# Altium schematic symbol library SCH - MCU - STM32 - ST MICROELECTRONICS STM32G441CBYX WLCSP49.SchLib: 1 symbol
Pins are listed as number, name and electrical type; pins without a type are passive.

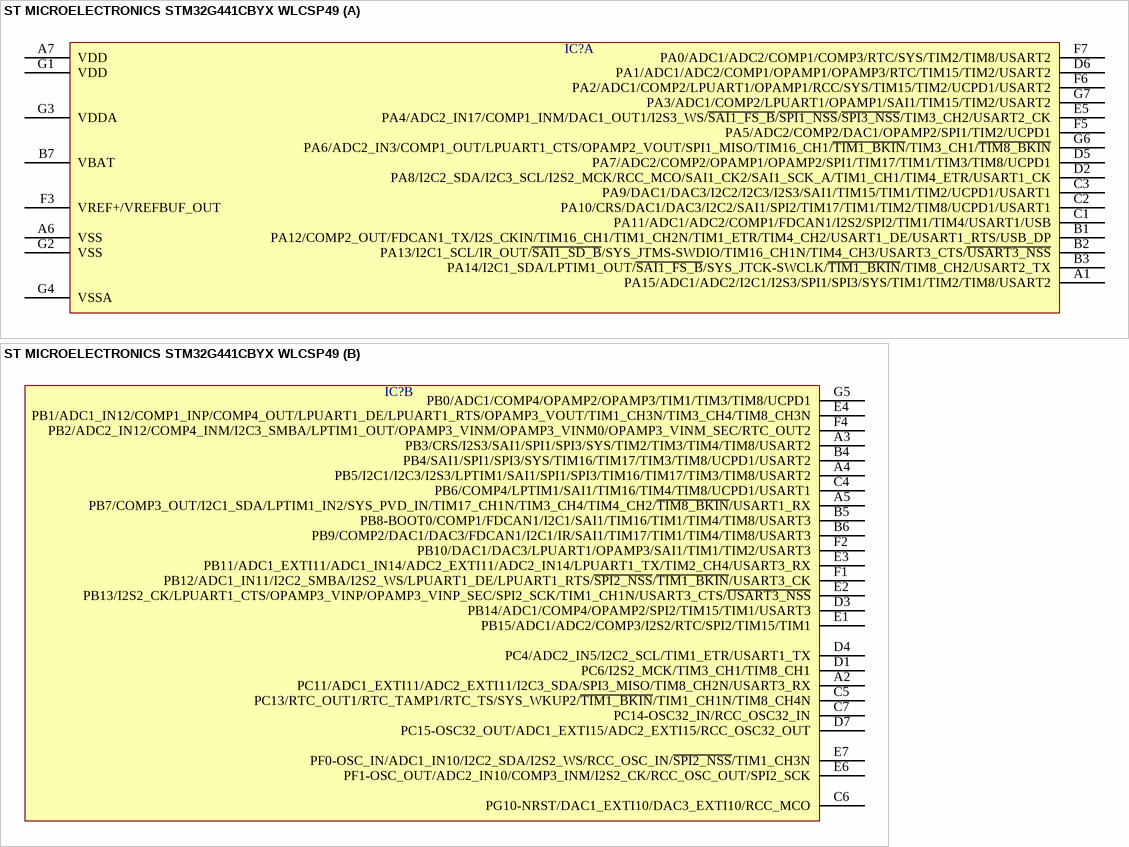
[diagram p0: symbol ST MICROELECTRONICS STM32G441CBYX WLCSP49]

## ST MICROELECTRONICS STM32G441CBYX WLCSP49
designator IC?  (value not drawn)
part A pins: A1 PA15/ADC1/ADC2/I2C1/I2S3/SPI1/SPI3/SYS/TIM1/TIM2/TIM8/USART2, A6 VSS, A7 VDD, B1 PA12/COMP2_OUT/FDCAN1_TX/I2S_CKIN/TIM16_CH1/TIM1_CH2N/TIM1_ETR/TIM4_CH2/USART1_DE/USART1_RTS/USB_DP, B2 PA13/I2C1_SCL/IR_OUT/~{SAI1_SD_B}/SYS_JTMS-SWDIO/TIM16_CH1N/TIM4_CH3/USART3_CTS/~{USART3_NSS}, B3 PA14/I2C1_SDA/LPTIM1_OUT/~{SAI1_FS_B}/SYS_JTCK-SWCLK/~{TIM1_BKIN}/TIM8_CH2/USART2_TX, B7 VBAT, C1 PA11/ADC1/ADC2/COMP1/FDCAN1/I2S2/SPI2/TIM1/TIM4/USART1/USB, C2 PA10/CRS/DAC1/DAC3/I2C2/SAI1/SPI2/TIM17/TIM1/TIM2/TIM8/UCPD1/USART1, C3 PA9/DAC1/DAC3/I2C2/I2C3/I2S3/SAI1/TIM15/TIM1/TIM2/UCPD1/USART1, D2 PA8/I2C2_SDA/I2C3_SCL/I2S2_MCK/RCC_MCO/SAI1_CK2/SAI1_SCK_A/TIM1_CH1/TIM4_ETR/USART1_CK, D5 PA7/ADC2/COMP2/OPAMP1/OPAMP2/SPI1/TIM17/TIM1/TIM3/TIM8/UCPD1, D6 PA1/ADC1/ADC2/COMP1/OPAMP1/OPAMP3/RTC/TIM15/TIM2/USART2, E5 PA4/ADC2_IN17/COMP1_INM/DAC1_OUT1/I2S3_WS/~{SAI1_FS_B}/~{SPI1_NSS}/~{SPI3_NSS}/TIM3_CH2/USART2_CK, F3 VREF+/VREFBUF_OUT, F5 PA5/ADC2/COMP2/DAC1/OPAMP2/SPI1/TIM2/UCPD1, F6 PA2/ADC1/COMP2/LPUART1/OPAMP1/RCC/SYS/TIM15/TIM2/UCPD1/USART2, F7 PA0/ADC1/ADC2/COMP1/COMP3/RTC/SYS/TIM2/TIM8/USART2, G1 VDD, G2 VSS, G3 VDDA, G4 VSSA, G6 PA6/ADC2_IN3/COMP1_OUT/LPUART1_CTS/OPAMP2_VOUT/SPI1_MISO/TIM16_CH1/~{TIM1_BKIN}/TIM3_CH1/~{TIM8_BKIN}, G7 PA3/ADC1/COMP2/LPUART1/OPAMP1/SAI1/TIM15/TIM2/USART2
part B pins: A2 PC11/ADC1_EXTI11/ADC2_EXTI11/I2C3_SDA/SPI3_MISO/TIM8_CH2N/USART3_RX, A3 PB3/CRS/I2S3/SAI1/SPI1/SPI3/SYS/TIM2/TIM3/TIM4/TIM8/USART2, A4 PB5/I2C1/I2C3/I2S3/LPTIM1/SAI1/SPI1/SPI3/TIM16/TIM17/TIM3/TIM8/USART2, A5 PB7/COMP3_OUT/I2C1_SDA/LPTIM1_IN2/SYS_PVD_IN/TIM17_CH1N/TIM3_CH4/TIM4_CH2/~{TIM8_BKIN}/USART1_RX, B4 PB4/SAI1/SPI1/SPI3/SYS/TIM16/TIM17/TIM3/TIM8/UCPD1/USART2, B5 PB8-BOOT0/COMP1/FDCAN1/I2C1/SAI1/TIM16/TIM1/TIM4/TIM8/USART3, B6 PB9/COMP2/DAC1/DAC3/FDCAN1/I2C1/IR/SAI1/TIM17/TIM1/TIM4/TIM8/USART3, C4 PB6/COMP4/LPTIM1/SAI1/TIM16/TIM4/TIM8/UCPD1/USART1, C5 PC13/RTC_OUT1/RTC_TAMP1/RTC_TS/SYS_WKUP2/~{TIM1_BKIN}/TIM1_CH1N/TIM8_CH4N, C6 PG10-NRST/DAC1_EXTI10/DAC3_EXTI10/RCC_MCO, C7 PC14-OSC32_IN/RCC_OSC32_IN, D1 PC6/I2S2_MCK/TIM3_CH1/TIM8_CH1, D3 PB14/ADC1/COMP4/OPAMP2/SPI2/TIM15/TIM1/USART3, D4 PC4/ADC2_IN5/I2C2_SCL/TIM1_ETR/USART1_TX, D7 PC15-OSC32_OUT/ADC1_EXTI15/ADC2_EXTI15/RCC_OSC32_OUT, E1 PB15/ADC1/ADC2/COMP3/I2S2/RTC/SPI2/TIM15/TIM1, E2 PB13/I2S2_CK/LPUART1_CTS/OPAMP3_VINP/OPAMP3_VINP_SEC/SPI2_SCK/TIM1_CH1N/USART3_CTS/~{USART3_NSS}, E3 PB11/ADC1_EXTI11/ADC1_IN14/ADC2_EXTI11/ADC2_IN14/LPUART1_TX/TIM2_CH4/USART3_RX, E4 PB1/ADC1_IN12/COMP1_INP/COMP4_OUT/LPUART1_DE/LPUART1_RTS/OPAMP3_VOUT/TIM1_CH3N/TIM3_CH4/TIM8_CH3N, E6 PF1-OSC_OUT/ADC2_IN10/COMP3_INM/I2S2_CK/RCC_OSC_OUT/SPI2_SCK, E7 PF0-OSC_IN/ADC1_IN10/I2C2_SDA/I2S2_WS/RCC_OSC_IN/~{SPI2_NSS}/TIM1_CH3N, F1 PB12/ADC1_IN11/I2C2_SMBA/I2S2_WS/LPUART1_DE/LPUART1_RTS/~{SPI2_NSS}/~{TIM1_BKIN}/USART3_CK, F2 PB10/DAC1/DAC3/LPUART1/OPAMP3/SAI1/TIM1/TIM2/USART3, F4 PB2/ADC2_IN12/COMP4_INM/I2C3_SMBA/LPTIM1_OUT/OPAMP3_VINM/OPAMP3_VINM0/OPAMP3_VINM_SEC/RTC_OUT2, G5 PB0/ADC1/COMP4/OPAMP2/OPAMP3/TIM1/TIM3/TIM8/UCPD1